# Altium footprint library F861BB104M310A.PcbLib: 1 footprints
Each footprint in its own frame and in the unit in brackets; x right, y up, seen from the top. Pads: shape width x height; smd on the part's side, far side on the other; paste and mask are expansions set on the pad; w line width, h text height; cw(c..) or ccw(c..) is an arc to the next point about the centre after c.
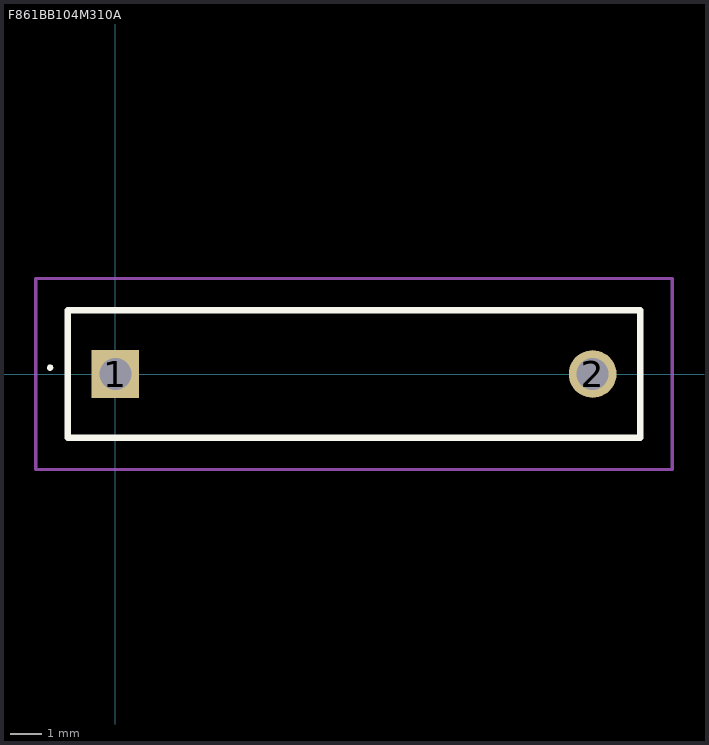
[diagram p0: the footprint, top view; thin cyan lines are the x and y axes]

## F861BB104M310A [mm]
pads (2):
  rect 1.5x1.5 hole 1: 1(0,0)
  round 1.5 hole 1: 2(15,0)
Top Overlay:
  lines w0.1: -2.1,0.2 cw(c-2.05,0.2) -2,0.2 ; -2.1,0.2 -2.1,0.2 ; -2.1,0.2 ccw(c-2.05,0.2) -2,0.2 ; -2,0.2 -2,0.2
  lines w0.2: -1.5,-2 16.5,-2 16.5,2 -1.5,2 -1.5,-2
Mechanical 15:
  lines w0.1: -1.5,-2 16.5,-2 16.5,2 -1.5,2 -1.5,-2
Mechanical 20:
  lines w0.1: -2.5,-3 17.5,-3 17.5,3 -2.5,3 -2.5,-3
3D body "F861BB104M310A.stp": height 5.8, standoff -4.65, extent -10,-3.376 10,3.376